# EAGLE library part MOSFET-N+P (library firefly)
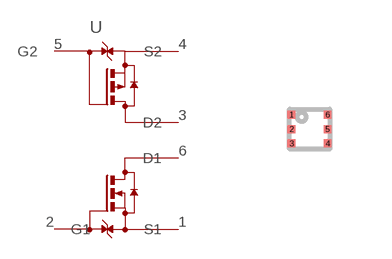
[diagram p5: symbol with the pads of SOT963; footprint SOT963]

Designator prefix -

## MOSFET-N+PSOT963  [SOT963]
1  S1  pas
2  G1  pas
3  D2  pas
4  S2  pas
5  G2  pas
6  D1  pas

## Footprint SOT963 (pad centres in mm)
smd 0.2 x 0.2: 1 -0.45,0.36; 2 -0.45,0; 3 -0.45,-0.36; 4 0.45,-0.36; 5 0.45,0; 6 0.45,0.36